# EAGLE library part 4164 (library 326298_rev_a)
MEMORY
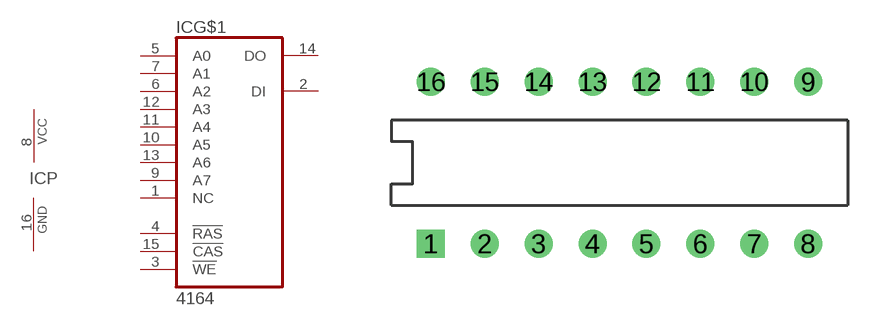
[diagram p10: symbol with the pads of DIL16; footprint DIL16]

Designator prefix IC; gates G$1=4164 P=PWRN

## 4164  [DIL16]
1  G$1:NC  pas
2  G$1:DI  in
3  G$1:!WE  in
4  G$1:!RAS  in
5  G$1:A0  in
6  G$1:A2  in
7  G$1:A1  in
8  P:VCC  pwr
9  G$1:A7  in
10  G$1:A5  in
11  G$1:A4  in
12  G$1:A3  in
13  G$1:A6  in
14  G$1:DO  hiz
15  G$1:!CAS  in
16  P:GND  pwr

## Footprint DIL16 (pad centres in mm)
Dual In Line Package
drill 0.813 square: 1 0,0
drill 0.813: 2 2.54,0; 3 5.08,0; 4 7.62,0; 5 10.16,0; 6 12.7,0; 7 15.24,0; 8 17.78,0; 9 17.78,7.62; 10 15.24,7.62; 11 12.7,7.62; 12 10.16,7.62; 13 7.62,7.62; 14 5.08,7.62; 15 2.54,7.62; 16 0,7.62